# EAGLE library part ARDUINO_UNO (library MyDuino)
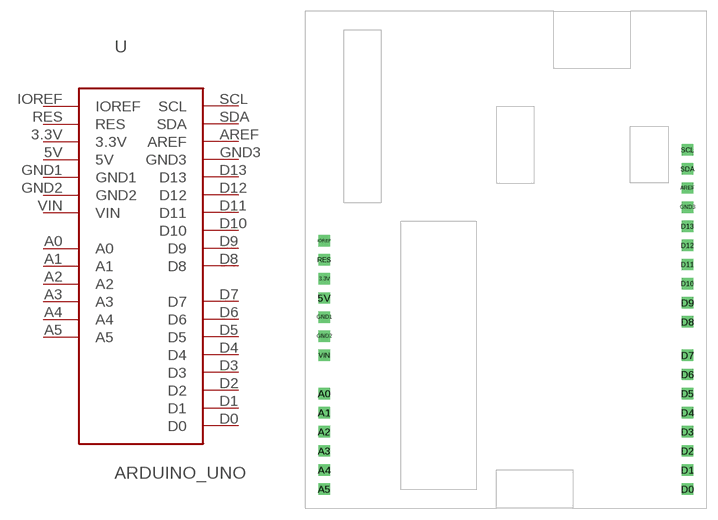
[diagram p5: symbol with the pads of ARDUINO_UNO; footprint ARDUINO_UNO]

Designator prefix -

## ARDUINO_UNO  [ARDUINO_UNO]
3.3V  3.3V
5V  5V
A0  A0
A1  A1
A2  A2
A3  A3
A4  A4
A5  A5
AREF  AREF
D0  D0
D1  D1
D2  D2
D3  D3
D4  D4
D5  D5
D6  D6
D7  D7
D8  D8
D9  D9
D10  D10
D11  D11
D12  D12
D13  D13
GND1  GND1
GND2  GND2
GND3  GND3
IOREF  IOREF
RES  RES
SCL  SCL
SDA  SDA
VIN  VIN

## Footprint ARDUINO_UNO (pad centres in mm)
drill 1 square: 3.3V -10.16,5.08; 5V -10.16,2.54; A0 -10.16,-10.16; A1 -10.16,-12.7; A2 -10.16,-15.24; A3 -10.16,-17.78; A4 -10.16,-20.32; A5 -10.16,-22.86; AREF 38.1,17.145; D0 38.1,-22.86; D1 38.1,-20.32; D2 38.1,-17.78; D3 38.1,-15.24; D4 38.1,-12.7; D5 38.1,-10.16; D6 38.1,-7.62; D7 38.1,-5.08; D8 38.1,-0.635; D9 38.1,1.905; D10 38.1,4.445; D11 38.1,6.985; D12 38.1,9.525; D13 38.1,12.065; GND1 -10.16,0; GND2 -10.16,-2.54; GND3 38.1,14.605; IOREF -10.16,10.16; RES -10.16,7.62; SCL 38.1,22.225; SDA 38.1,19.685; VIN -10.16,-5.08